# Altium schematic symbol library Symbols.SchLib: 1 symbol
Pins are listed as number, name and electrical type; pins without a type are passive.

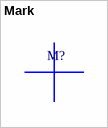
[diagram p0: symbol Mark]

## Mark
designator M?, comment PasteMark  (value not drawn)
Paste Mark
footprint Mark-3mm
footprint Mark-4mm
footprint Mark-5mm